# Altium schematic symbol library anyComponent.SchLib: 1 symbol
Pins are listed as number, name and electrical type; pins without a type are passive.

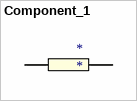
[diagram p0: symbol Component_1]

## Component_1
designator *
footprint 200mil
footprint 300mil
pins: 1, 2